# EAGLE library part RESISTOR-ARRAY-4 (library heck)
Array Chip Resistor Source: RS Component / Phycomp
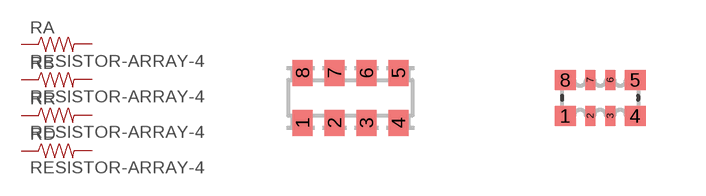
[diagram p12: symbol with the pads of 0603-ARV; footprints 0603-ARV, EXB28V]

Designator prefix R; gates A=RESISTOR-1 B=RESISTOR-1 R=RESISTOR-1 D=RESISTOR-1

## RESISTOR-ARRAY-40603-ARV  [0603-ARV]
1  A:1  pas
2  B:1  pas
3  R:1  pas
4  D:1  pas
5  D:2  pas
6  R:2  pas
7  B:2  pas
8  A:2  pas

## RESISTOR-ARRAY-4_EXB28V  [EXB28V]
Pads as for 0603-ARV

## Footprint 0603-ARV (pad centres in mm)
Chip Resistor Array size 4 × 0603 convex termination - Phycomp Components Source: RS Components
smd 0.5 x 0.65: 1 -1.2,-0.625; 2 -0.4,-0.625; 3 0.4,-0.625; 4 1.2,-0.625; 5 1.2,0.625; 6 0.4,0.625; 7 -0.4,0.625; 8 -1.2,0.625

## Footprint EXB28V (pad centres in mm)
Chip Resistor Array 0402x4 4 resistors in 2.0 mm x 1.0 mm size Source: PANASONIC .. aoc0000ce1.pdf
smd 0.525 x 0.5: 1 -0.875,-0.45; 4 0.875,-0.45; 5 0.875,0.45; 8 -0.875,0.45
smd 0.25 x 0.5: 2 -0.25,-0.45; 3 0.25,-0.45; 6 0.25,0.45; 7 -0.25,0.45